# EAGLE library part RF4463PRO (library RF4436PRO)
RF4463PRO module with Si4463 chipset.
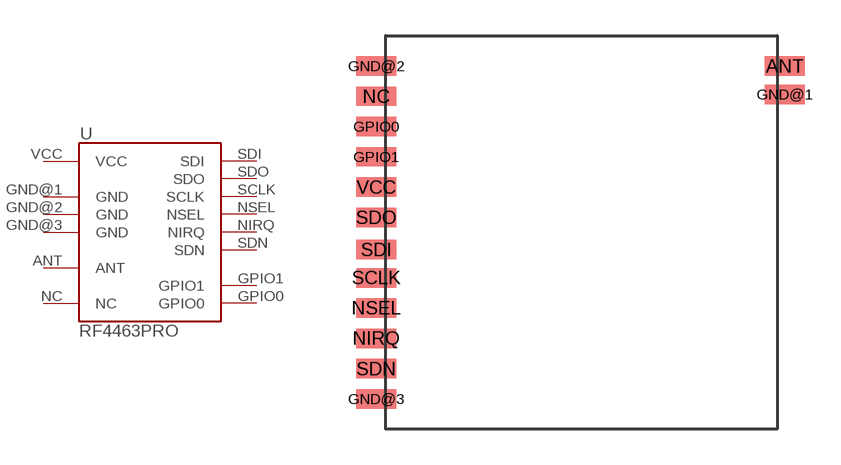
[diagram p0: symbol with the pads of STD_BOARD; footprint STD_BOARD]

Designator prefix -

## RF4463PRO  [STD_BOARD]
ANT  ANT  out
GND@1  GND  pwr
GND@2  GND  pwr
GND@3  GND  pwr
GPIO0  GPIO0
GPIO1  GPIO1
NC  NC  nc
NIRQ  NIRQ  out
NSEL  NSEL  in
SCLK  SCLK  in
SDI  SDI
SDN  SDN  in
SDO  SDO  out
VCC  VCC  pwr

## Footprint STD_BOARD (pad centres in mm)
smd 1.676 x 0.813: ANT 8.811,6.35; GND@1 8.811,5.159; GND@2 -8.334,6.35; GND@3 -8.334,-7.62; GPIO0 -8.334,3.81; GPIO1 -8.334,2.54; NC -8.334,5.08; NIRQ -8.334,-5.08; NSEL -8.334,-3.81; SCLK -8.334,-2.54; SDI -8.334,-1.349; SDN -8.334,-6.35; SDO -8.334,0; VCC -8.334,1.27